# Altium schematic symbol library NCP1521B.SchLib: 1 symbol
Pins are listed as number, name and electrical type; pins without a type are passive.

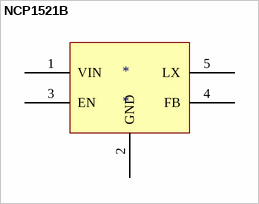
[diagram p0: symbol NCP1521B]

## NCP1521B
designator *
footprint SOT95P250-5L (Small Outline, 5-Leads, Body 2.9x1.6mm, Pitch 0.95mm, Lead Span 2.5mm - Modified Leads, IPC High Density)
pins: 1 VIN, 2 GND, 3 EN, 4 FB, 5 LX